# Altium footprint library 19774772.PcbLib: 1 footprints
Each footprint in its own frame and in the unit in brackets; x right, y up, seen from the top. Pads: shape width x height; smd on the part's side, far side on the other; paste and mask are expansions set on the pad; w line width, h text height; cw(c..) or ccw(c..) is an arc to the next point about the centre after c.
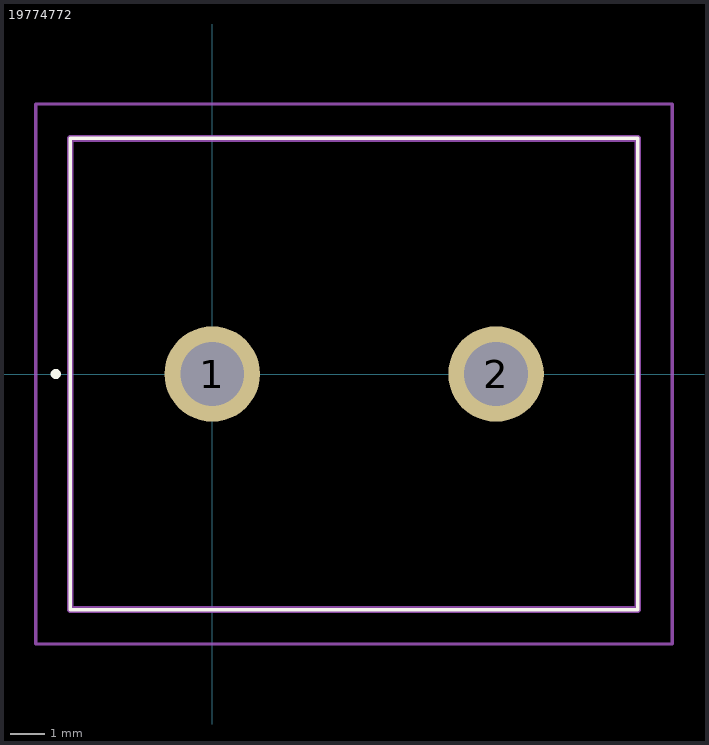
[diagram p0: the footprint, top view; thin cyan lines are the x and y axes]

## 19774772 [mm]
pads (2):
  round 2.775 hole 1.85: 1(0,0) 2(8.25,0)
Top Overlay:
  lines w0.1: -4.13,-6.85 12.37,-6.85 12.37,6.85 -4.13,6.85 -4.13,-6.85
  lines w0.2: -4.6,0 -4.6,0 ; -4.6,0 ccw(c-4.55,0) -4.5,0 ; -4.6,0 cw(c-4.55,0) -4.5,0 ; -4.6,0 -4.6,0 ; -4.6,0 ccw(c-4.55,0) -4.5,0 ; -4.5,0 -4.5,0
Mechanical 15:
  lines w0.2: -4.13,-6.85 12.37,-6.85 12.37,6.85 -4.13,6.85 -4.13,-6.85
Mechanical 20:
  lines w0.1: -5.13,-7.85 13.37,-7.85 13.37,7.85 -5.13,7.85 -5.13,-7.85
3D body "1977477-2.stp": height 5.8, standoff -4.65, extent -10,-3.376 10,3.376